# Altium schematic symbol library WE-FLEX HV.SchLib: 25 symbols
Pins are listed as number, name and electrical type; pins without a type are passive.

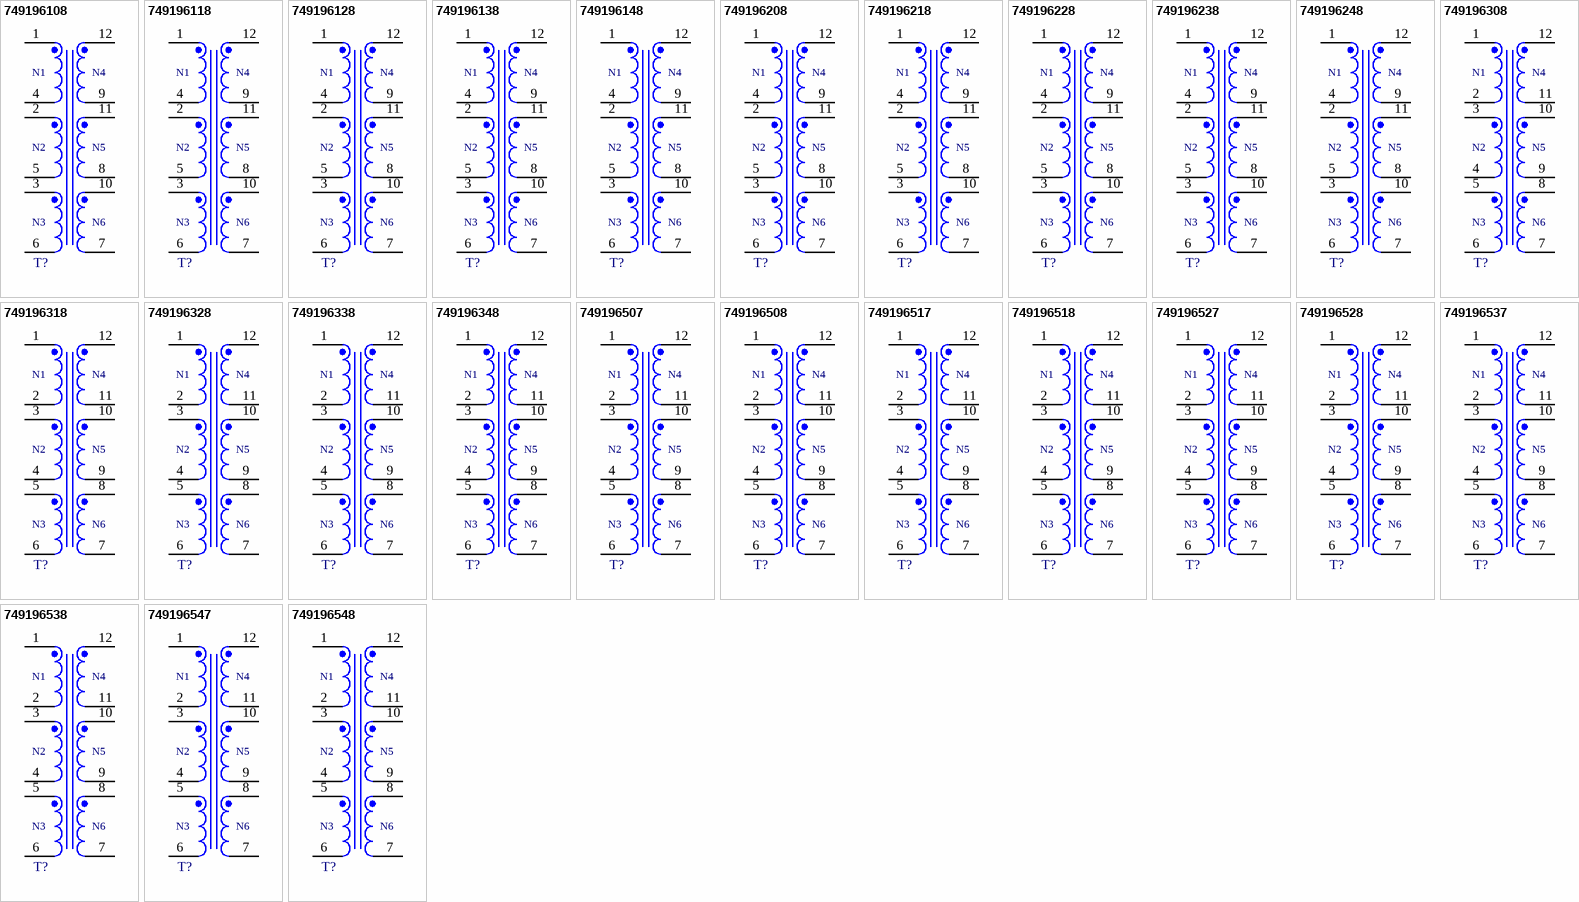
[diagram p0: symbols 749196108 to 749196548]

## 749196108
designator T?, comment 224.6µH, 0.5A  (value not drawn)
WE-FLEX HV SMT Flexible Transformer for DC/DC Converter, ER11.5, 224.6µH, 0.5A; Manufacturer Part Number: 749196108; Manufacturer: Wurth Elektronik; DC Resistance Base: 344mΩ; Insulation Test Voltage: 1500VAC; Leakage Inductance Base: 0.3µH; Saturation Current Base: 0.04A; Turns Ratio: 1:1:1:1:1:1; Type: ungapped; Voltage-µSecond Base: 49.3µVs; ComponentLink1Description: Website Link; ComponentLink1URL: https://www.we-online.com/redexpert/article/749196108?ad; ComponentLink2Description: Datasheet Link; ComponentLink2URL: https://www.we-online.com/redexpert/spec/749196108?ad; Category: Flexible Transformers For SMPS; Match Code: WE-FLEX HV; Mount: Surface Mount; Operating Temperature Max: 125°C; Operating Temperature Min: -40°C; Packaging: Tape and Reel; Case/Size Code: ER11.5; Length: 12.9mm; Width: 9.2mm; Height: 6.2mm; Inductance Base: 224.6µH; Rated Current Base: 0.5A
footprint WE-FLEX HV_ER11.5
pins: 1, 2, 3, 4, 5, 6, 7, 8, 9, 10, 11, 12
text: N1; N4; N2; N5; N3; N6

## 749196118
designator T?, comment 27.4µH, 0.5A  (value not drawn)
WE-FLEX HV SMT Flexible Transformer for DC/DC Converter, ER11.5, 27.4µH, 0.5A; Manufacturer Part Number: 749196118; Manufacturer: Wurth Elektronik; DC Resistance Base: 344mΩ; Insulation Test Voltage: 1500VAC; Leakage Inductance Base: 0.3µH; Saturation Current Base: 0.29A; Turns Ratio: 1:1:1:1:1:1; Type: gapped; Voltage-µSecond Base: 49.3µVs; ComponentLink1Description: Website Link; ComponentLink1URL: https://www.we-online.com/redexpert/article/749196118?ad; ComponentLink2Description: Datasheet Link; ComponentLink2URL: https://www.we-online.com/redexpert/spec/749196118?ad; Category: Flexible Transformers For SMPS; Match Code: WE-FLEX HV; Mount: Surface Mount; Operating Temperature Max: 125°C; Operating Temperature Min: -40°C; Packaging: Tape and Reel; Case/Size Code: ER11.5; Length: 12.9mm; Width: 9.2mm; Height: 6.2mm; Inductance Base: 27.4µH; Rated Current Base: 0.5A
footprint WE-FLEX HV_ER11.5
pins: 1, 2, 3, 4, 5, 6, 7, 8, 9, 10, 11, 12
text: N1; N4; N2; N5; N3; N6

## 749196128
designator T?, comment 14.7µH, 0.5A  (value not drawn)
WE-FLEX HV SMT Flexible Transformer for DC/DC Converter, ER11.5, 14.7µH, 0.5A; Manufacturer Part Number: 749196128; Manufacturer: Wurth Elektronik; DC Resistance Base: 344mΩ; Insulation Test Voltage: 1500VAC; Leakage Inductance Base: 0.3µH; Saturation Current Base: 0.55A; Turns Ratio: 1:1:1:1:1:1; Type: gapped; Voltage-µSecond Base: 49.3µVs; ComponentLink1Description: Website Link; ComponentLink1URL: https://www.we-online.com/redexpert/article/749196128?ad; ComponentLink2Description: Datasheet Link; ComponentLink2URL: https://www.we-online.com/redexpert/spec/749196128?ad; Category: Flexible Transformers For SMPS; Match Code: WE-FLEX HV; Mount: Surface Mount; Operating Temperature Max: 125°C; Operating Temperature Min: -40°C; Packaging: Tape and Reel; Case/Size Code: ER11.5; Length: 12.9mm; Width: 9.2mm; Height: 6.2mm; Inductance Base: 14.7µH; Rated Current Base: 0.5A
footprint WE-FLEX HV_ER11.5
pins: 1, 2, 3, 4, 5, 6, 7, 8, 9, 10, 11, 12
text: N1; N4; N2; N5; N3; N6

## 749196138
designator T?, comment 10.9µH, 0.5A  (value not drawn)
WE-FLEX HV SMT Flexible Transformer for DC/DC Converter, ER11.5, 10.9µH, 0.5A; Manufacturer Part Number: 749196138; Manufacturer: Wurth Elektronik; DC Resistance Base: 344mΩ; Insulation Test Voltage: 1500VAC; Leakage Inductance Base: 0.3µH; Saturation Current Base: 0.8A; Turns Ratio: 1:1:1:1:1:1; Type: gapped; Voltage-µSecond Base: 49.3µVs; ComponentLink1Description: Website Link; ComponentLink1URL: https://www.we-online.com/redexpert/article/749196138?ad; ComponentLink2Description: Datasheet Link; ComponentLink2URL: https://www.we-online.com/redexpert/spec/749196138?ad; Category: Flexible Transformers For SMPS; Match Code: WE-FLEX HV; Mount: Surface Mount; Operating Temperature Max: 125°C; Operating Temperature Min: -40°C; Packaging: Tape and Reel; Case/Size Code: ER11.5; Length: 12.9mm; Width: 9.2mm; Height: 6.2mm; Inductance Base: 10.9µH; Rated Current Base: 0.5A
footprint WE-FLEX HV_ER11.5
pins: 1, 2, 3, 4, 5, 6, 7, 8, 9, 10, 11, 12
text: N1; N4; N2; N5; N3; N6

## 749196148
designator T?, comment 8.5µH, 0.5A  (value not drawn)
WE-FLEX HV SMT Flexible Transformer for DC/DC Converter, ER11.5, 8.5µH, 0.5A; Manufacturer Part Number: 749196148; Manufacturer: Wurth Elektronik; DC Resistance Base: 344mΩ; Insulation Test Voltage: 1500VAC; Leakage Inductance Base: 0.3µH; Saturation Current Base: 1.02A; Turns Ratio: 1:1:1:1:1:1; Type: gapped; Voltage-µSecond Base: 49.3µVs; ComponentLink1Description: Website Link; ComponentLink1URL: https://www.we-online.com/redexpert/article/749196148?ad; ComponentLink2Description: Datasheet Link; ComponentLink2URL: https://www.we-online.com/redexpert/spec/749196148?ad; Category: Flexible Transformers For SMPS; Match Code: WE-FLEX HV; Mount: Surface Mount; Operating Temperature Max: 125°C; Operating Temperature Min: -40°C; Packaging: Tape and Reel; Case/Size Code: ER11.5; Length: 12.9mm; Width: 9.2mm; Height: 6.2mm; Inductance Base: 8.5µH; Rated Current Base: 0.5A
footprint WE-FLEX HV_ER11.5
pins: 1, 2, 3, 4, 5, 6, 7, 8, 9, 10, 11, 12
text: N1; N4; N2; N5; N3; N6

## 749196208
designator T?, comment 140µH, 0.8A  (value not drawn)
WE-FLEX HV SMT Flexible Transformer for DC/DC Converter, ER14.5/6, 140µH, 0.8A; Manufacturer Part Number: 749196208; Manufacturer: Wurth Elektronik; DC Resistance Base: 200mΩ; Insulation Test Voltage: 1500VAC; Leakage Inductance Base: 0.17µH; Saturation Current Base: 0.07A; Turns Ratio: 1:1:1:1:1:1; Type: ungapped; Voltage-µSecond Base: 63.4µVs; ComponentLink1Description: Website Link; ComponentLink1URL: https://www.we-online.com/redexpert/article/749196208?ad; ComponentLink2Description: Datasheet Link; ComponentLink2URL: https://www.we-online.com/redexpert/spec/749196208?ad; Category: Flexible Transformers For SMPS; Match Code: WE-FLEX HV; Mount: Surface Mount; Operating Temperature Max: 125°C; Operating Temperature Min: -40°C; Packaging: Tape and Reel; Case/Size Code: ER14.5/6; Length: 16.3mm; Width: 12mm; Height: 7.4mm; Inductance Base: 140µH; Rated Current Base: 0.8A
footprint WE-FLEX HV_ER14.5/6
pins: 1, 2, 3, 4, 5, 6, 7, 8, 9, 10, 11, 12
text: N1; N4; N2; N5; N3; N6

## 749196218
designator T?, comment 21.6µH, 0.8A  (value not drawn)
WE-FLEX HV SMT Flexible Transformer for DC/DC Converter, ER14.5/6, 21.6µH, 0.8A; Manufacturer Part Number: 749196218; Manufacturer: Wurth Elektronik; DC Resistance Base: 200mΩ; Insulation Test Voltage: 1500VAC; Leakage Inductance Base: 0.17µH; Saturation Current Base: 0.48A; Turns Ratio: 1:1:1:1:1:1; Type: gapped; Voltage-µSecond Base: 63.4µVs; ComponentLink1Description: Website Link; ComponentLink1URL: https://www.we-online.com/redexpert/article/749196218?ad; ComponentLink2Description: Datasheet Link; ComponentLink2URL: https://www.we-online.com/redexpert/spec/749196218?ad; Category: Flexible Transformers For SMPS; Match Code: WE-FLEX HV; Mount: Surface Mount; Operating Temperature Max: 125°C; Operating Temperature Min: -40°C; Packaging: Tape and Reel; Case/Size Code: ER14.5/6; Length: 16.3mm; Width: 12mm; Height: 7.4mm; Inductance Base: 21.6µH; Rated Current Base: 0.8A
footprint WE-FLEX HV_ER14.5/6
pins: 1, 2, 3, 4, 5, 6, 7, 8, 9, 10, 11, 12
text: N1; N4; N2; N5; N3; N6

## 749196228
designator T?, comment 11.6µH, 0.8A  (value not drawn)
WE-FLEX HV SMT Flexible Transformer for DC/DC Converter, ER14.5/6, 11.6µH, 0.8A; Manufacturer Part Number: 749196228; Manufacturer: Wurth Elektronik; DC Resistance Base: 200mΩ; Insulation Test Voltage: 1500VAC; Leakage Inductance Base: 0.17µH; Saturation Current Base: 0.94A; Turns Ratio: 1:1:1:1:1:1; Type: gapped; Voltage-µSecond Base: 63.4µVs; ComponentLink1Description: Website Link; ComponentLink1URL: https://www.we-online.com/redexpert/article/749196228?ad; ComponentLink2Description: Datasheet Link; ComponentLink2URL: https://www.we-online.com/redexpert/spec/749196228?ad; Category: Flexible Transformers For SMPS; Match Code: WE-FLEX HV; Mount: Surface Mount; Operating Temperature Max: 125°C; Operating Temperature Min: -40°C; Packaging: Tape and Reel; Case/Size Code: ER14.5/6; Length: 16.3mm; Width: 12mm; Height: 7.4mm; Inductance Base: 11.6µH; Rated Current Base: 0.8A
footprint WE-FLEX HV_ER14.5/6
pins: 1, 2, 3, 4, 5, 6, 7, 8, 9, 10, 11, 12
text: N1; N4; N2; N5; N3; N6

## 749196238
designator T?, comment 8.3µH, 0.8A  (value not drawn)
WE-FLEX HV SMT Flexible Transformer for DC/DC Converter, ER14.5/6, 8.3µH, 0.8A; Manufacturer Part Number: 749196238; Manufacturer: Wurth Elektronik; DC Resistance Base: 200mΩ; Insulation Test Voltage: 1500VAC; Leakage Inductance Base: 0.17µH; Saturation Current Base: 1.3A; Turns Ratio: 1:1:1:1:1:1; Type: gapped; Voltage-µSecond Base: 63.4µVs; ComponentLink1Description: Website Link; ComponentLink1URL: https://www.we-online.com/redexpert/article/749196238?ad; ComponentLink2Description: Datasheet Link; ComponentLink2URL: https://www.we-online.com/redexpert/spec/749196238?ad; Category: Flexible Transformers For SMPS; Match Code: WE-FLEX HV; Mount: Surface Mount; Operating Temperature Max: 125°C; Operating Temperature Min: -40°C; Packaging: Tape and Reel; Case/Size Code: ER14.5/6; Length: 16.3mm; Width: 12mm; Height: 7.4mm; Inductance Base: 8.3µH; Rated Current Base: 0.8A
footprint WE-FLEX HV_ER14.5/6
pins: 1, 2, 3, 4, 5, 6, 7, 8, 9, 10, 11, 12
text: N1; N4; N2; N5; N3; N6

## 749196248
designator T?, comment 6.6µH, 0.8A  (value not drawn)
WE-FLEX HV SMT Flexible Transformer for DC/DC Converter, ER14.5/6, 6.6µH, 0.8A; Manufacturer Part Number: 749196248; Manufacturer: Wurth Elektronik; DC Resistance Base: 200mΩ; Insulation Test Voltage: 1500VAC; Leakage Inductance Base: 0.17µH; Saturation Current Base: 1.6A; Turns Ratio: 1:1:1:1:1:1; Type: gapped; Voltage-µSecond Base: 63.4µVs; ComponentLink1Description: Website Link; ComponentLink1URL: https://www.we-online.com/redexpert/article/749196248?ad; ComponentLink2Description: Datasheet Link; ComponentLink2URL: https://www.we-online.com/redexpert/spec/749196248?ad; Category: Flexible Transformers For SMPS; Match Code: WE-FLEX HV; Mount: Surface Mount; Operating Temperature Max: 125°C; Operating Temperature Min: -40°C; Packaging: Tape and Reel; Case/Size Code: ER14.5/6; Length: 16.3mm; Width: 12mm; Height: 7.4mm; Inductance Base: 6.6µH; Rated Current Base: 0.8A
footprint WE-FLEX HV_ER14.5/6
pins: 1, 2, 3, 4, 5, 6, 7, 8, 9, 10, 11, 12
text: N1; N4; N2; N5; N3; N6

## 749196308
designator T?, comment 153.8µH, 0.83A  (value not drawn)
WE-FLEX HV SMT Flexible Transformer for DC/DC Converter, EFD15, 153.8µH, 0.83A; Manufacturer Part Number: 749196308; Manufacturer: Wurth Elektronik; DC Resistance Base: 145mΩ; Insulation Test Voltage: 1500VAC; Leakage Inductance Base: 0.13µH; Saturation Current Base: 0.06A; Turns Ratio: 1:1:1:1:1:1; Type: ungapped; Voltage-µSecond Base: 61.3µVs; ComponentLink1Description: Website Link; ComponentLink1URL: https://www.we-online.com/redexpert/article/749196308?ad; ComponentLink2Description: Datasheet Link; ComponentLink2URL: https://www.we-online.com/redexpert/spec/749196308?ad; Category: Flexible Transformers For SMPS; Match Code: WE-FLEX HV; Mount: Surface Mount; Operating Temperature Max: 125°C; Operating Temperature Min: -40°C; Packaging: Tape and Reel; Case/Size Code: EFD15; Length: 16mm; Width: 17.5mm; Height: 9mm; Inductance Base: 153.8µH; Rated Current Base: 0.83A
footprint WE-FLEX HV_EFD15
pins: 1, 2, 3, 4, 5, 6, 7, 8, 9, 10, 11, 12
text: N1; N4; N2; N5; N3; N6

## 749196318
designator T?, comment 23.3µH, 0.83A  (value not drawn)
WE-FLEX HV SMT Flexible Transformer for DC/DC Converter, EFD15, 23.3µH, 0.83A; Manufacturer Part Number: 749196318; Manufacturer: Wurth Elektronik; DC Resistance Base: 145mΩ; Insulation Test Voltage: 1500VAC; Leakage Inductance Base: 0.13µH; Saturation Current Base: 0.43A; Turns Ratio: 1:1:1:1:1:1; Type: gapped; Voltage-µSecond Base: 61.3µVs; ComponentLink1Description: Website Link; ComponentLink1URL: https://www.we-online.com/redexpert/article/749196318?ad; ComponentLink2Description: Datasheet Link; ComponentLink2URL: https://www.we-online.com/redexpert/spec/749196318?ad; Category: Flexible Transformers For SMPS; Match Code: WE-FLEX HV; Mount: Surface Mount; Operating Temperature Max: 125°C; Operating Temperature Min: -40°C; Packaging: Tape and Reel; Case/Size Code: EFD15; Length: 16mm; Width: 17.5mm; Height: 9mm; Inductance Base: 23.3µH; Rated Current Base: 0.83A
footprint WE-FLEX HV_EFD15
pins: 1, 2, 3, 4, 5, 6, 7, 8, 9, 10, 11, 12
text: N1; N4; N2; N5; N3; N6

## 749196328
designator T?, comment 14.2µH, 0.83A  (value not drawn)
WE-FLEX HV SMT Flexible Transformer for DC/DC Converter, EFD15, 14.2µH, 0.83A; Manufacturer Part Number: 749196328; Manufacturer: Wurth Elektronik; DC Resistance Base: 145mΩ; Insulation Test Voltage: 1500VAC; Leakage Inductance Base: 0.13µH; Saturation Current Base: 0.72A; Turns Ratio: 1:1:1:1:1:1; Type: gapped; Voltage-µSecond Base: 61.3µVs; ComponentLink1Description: Website Link; ComponentLink1URL: https://www.we-online.com/redexpert/article/749196328?ad; ComponentLink2Description: Datasheet Link; ComponentLink2URL: https://www.we-online.com/redexpert/spec/749196328?ad; Category: Flexible Transformers For SMPS; Match Code: WE-FLEX HV; Mount: Surface Mount; Operating Temperature Max: 125°C; Operating Temperature Min: -40°C; Packaging: Tape and Reel; Case/Size Code: EFD15; Length: 16mm; Width: 17.5mm; Height: 9mm; Inductance Base: 14.2µH; Rated Current Base: 0.83A
footprint WE-FLEX HV_EFD15
pins: 1, 2, 3, 4, 5, 6, 7, 8, 9, 10, 11, 12
text: N1; N4; N2; N5; N3; N6

## 749196338
designator T?, comment 9.3µH, 0.83A  (value not drawn)
WE-FLEX HV SMT Flexible Transformer for DC/DC Converter, EFD15, 9.3µH, 0.83A; Manufacturer Part Number: 749196338; Manufacturer: Wurth Elektronik; DC Resistance Base: 145mΩ; Insulation Test Voltage: 1500VAC; Leakage Inductance Base: 0.13µH; Saturation Current Base: 1.13A; Turns Ratio: 1:1:1:1:1:1; Type: gapped; Voltage-µSecond Base: 61.3µVs; ComponentLink1Description: Website Link; ComponentLink1URL: https://www.we-online.com/redexpert/article/749196338?ad; ComponentLink2Description: Datasheet Link; ComponentLink2URL: https://www.we-online.com/redexpert/spec/749196338?ad; Category: Flexible Transformers For SMPS; Match Code: WE-FLEX HV; Mount: Surface Mount; Operating Temperature Max: 125°C; Operating Temperature Min: -40°C; Packaging: Tape and Reel; Case/Size Code: EFD15; Length: 16mm; Width: 17.5mm; Height: 9mm; Inductance Base: 9.3µH; Rated Current Base: 0.83A
footprint WE-FLEX HV_EFD15
pins: 1, 2, 3, 4, 5, 6, 7, 8, 9, 10, 11, 12
text: N1; N4; N2; N5; N3; N6

## 749196348
designator T?, comment 7.9µH, 0.83A  (value not drawn)
WE-FLEX HV SMT Flexible Transformer for DC/DC Converter, EFD15, 7.9µH, 0.83A; Manufacturer Part Number: 749196348; Manufacturer: Wurth Elektronik; DC Resistance Base: 145mΩ; Insulation Test Voltage: 1500VAC; Leakage Inductance Base: 0.13µH; Saturation Current Base: 1.41A; Turns Ratio: 1:1:1:1:1:1; Type: gapped; Voltage-µSecond Base: 61.3µVs; ComponentLink1Description: Website Link; ComponentLink1URL: https://www.we-online.com/redexpert/article/749196348?ad; ComponentLink2Description: Datasheet Link; ComponentLink2URL: https://www.we-online.com/redexpert/spec/749196348?ad; Category: Flexible Transformers For SMPS; Match Code: WE-FLEX HV; Mount: Surface Mount; Operating Temperature Max: 125°C; Operating Temperature Min: -40°C; Packaging: Tape and Reel; Case/Size Code: EFD15; Length: 16mm; Width: 17.5mm; Height: 9mm; Inductance Base: 7.9µH; Rated Current Base: 0.83A
footprint WE-FLEX HV_EFD15
pins: 1, 2, 3, 4, 5, 6, 7, 8, 9, 10, 11, 12
text: N1; N4; N2; N5; N3; N6

## 749196507
designator T?, comment 87.1µH, 2.3A  (value not drawn)
WE-FLEX HV SMT Flexible Transformer for DC/DC Converter, EFD20, 87.1µH, 2.3A; Manufacturer Part Number: 749196507; Manufacturer: Wurth Elektronik; DC Resistance Base: 36mΩ; Insulation Test Voltage: 1500VAC; Leakage Inductance Base: 0.18µH; Saturation Current Base: 0.16A; Turns Ratio: 1:1:1:1:1:1; Type: ungapped; Voltage-µSecond Base: 86.3µVs; ComponentLink1Description: Website Link; ComponentLink1URL: https://www.we-online.com/redexpert/article/749196507?ad; ComponentLink2Description: Datasheet Link; ComponentLink2URL: https://www.we-online.com/redexpert/spec/749196507?ad; Category: Flexible Transformers For SMPS; Match Code: WE-FLEX HV; Mount: Surface Mount; Operating Temperature Max: 125°C; Operating Temperature Min: -40°C; Packaging: Tape and Reel; Case/Size Code: EFD20; Length: 21mm; Width: 21.5mm; Height: 12mm; Inductance Base: 87.1µH; Rated Current Base: 2.3A
footprint WE-FLEX HV_EFD20
pins: 1, 2, 3, 4, 5, 6, 7, 8, 9, 10, 11, 12
text: N1; N4; N2; N5; N3; N6

## 749196508
designator T?, comment 196µH, 1.35A  (value not drawn)
WE-FLEX HV SMT Flexible Transformer for DC/DC Converter, EFD20, 196µH, 1.35A; Manufacturer Part Number: 749196508; Manufacturer: Wurth Elektronik; DC Resistance Base: 102mΩ; Insulation Test Voltage: 1500VAC; Leakage Inductance Base: 0.24µH; Saturation Current Base: 0.1A; Turns Ratio: 1:1:1:1:1:1; Type: ungapped; Voltage-µSecond Base: 123.4µVs; ComponentLink1Description: Website Link; ComponentLink1URL: https://www.we-online.com/redexpert/article/749196508?ad; ComponentLink2Description: Datasheet Link; ComponentLink2URL: https://www.we-online.com/redexpert/spec/749196508?ad; Category: Flexible Transformers For SMPS; Match Code: WE-FLEX HV; Mount: Surface Mount; Operating Temperature Max: 125°C; Operating Temperature Min: -40°C; Packaging: Tape and Reel; Case/Size Code: EFD20; Length: 21mm; Width: 21.5mm; Height: 12mm; Inductance Base: 196µH; Rated Current Base: 1.35A
footprint WE-FLEX HV_EFD20
pins: 1, 2, 3, 4, 5, 6, 7, 8, 9, 10, 11, 12
text: N1; N4; N2; N5; N3; N6

## 749196517
designator T?, comment 9.9µH, 2.3A  (value not drawn)
WE-FLEX HV SMT Flexible Transformer for DC/DC Converter, EFD20, 9.9µH, 2.3A; Manufacturer Part Number: 749196517; Manufacturer: Wurth Elektronik; DC Resistance Base: 36mΩ; Insulation Test Voltage: 1500VAC; Leakage Inductance Base: 0.18µH; Saturation Current Base: 1.35A; Turns Ratio: 1:1:1:1:1:1; Type: gapped; Voltage-µSecond Base: 83.6µVs; ComponentLink1Description: Website Link; ComponentLink1URL: https://www.we-online.com/redexpert/article/749196517?ad; ComponentLink2Description: Datasheet Link; ComponentLink2URL: https://www.we-online.com/redexpert/spec/749196517?ad; Category: Flexible Transformers For SMPS; Match Code: WE-FLEX HV; Mount: Surface Mount; Operating Temperature Max: 125°C; Operating Temperature Min: -40°C; Packaging: Tape and Reel; Case/Size Code: EFD20; Length: 21mm; Width: 21.5mm; Height: 12mm; Inductance Base: 9.9µH; Rated Current Base: 2.3A
footprint WE-FLEX HV_EFD20
pins: 1, 2, 3, 4, 5, 6, 7, 8, 9, 10, 11, 12
text: N1; N4; N2; N5; N3; N6

## 749196518
designator T?, comment 22.3µH, 1.35A  (value not drawn)
WE-FLEX HV SMT Flexible Transformer for DC/DC Converter, EFD20, 22.3µH, 1.35A; Manufacturer Part Number: 749196518; Manufacturer: Wurth Elektronik; DC Resistance Base: 102mΩ; Insulation Test Voltage: 1500VAC; Leakage Inductance Base: 0.24µH; Saturation Current Base: 0.93A; Turns Ratio: 1:1:1:1:1:1; Type: gapped; Voltage-µSecond Base: 123.4µVs; ComponentLink1Description: Website Link; ComponentLink1URL: https://www.we-online.com/redexpert/article/749196518?ad; ComponentLink2Description: Datasheet Link; ComponentLink2URL: https://www.we-online.com/redexpert/spec/749196518?ad; Category: Flexible Transformers For SMPS; Match Code: WE-FLEX HV; Mount: Surface Mount; Operating Temperature Max: 125°C; Operating Temperature Min: -40°C; Packaging: Tape and Reel; Case/Size Code: EFD20; Length: 21mm; Width: 21.5mm; Height: 12mm; Inductance Base: 22.3µH; Rated Current Base: 1.35A
footprint WE-FLEX HV_EFD20
pins: 1, 2, 3, 4, 5, 6, 7, 8, 9, 10, 11, 12
text: N1; N4; N2; N5; N3; N6

## 749196527
designator T?, comment 5.3µH, 2.3A  (value not drawn)
WE-FLEX HV SMT Flexible Transformer for DC/DC Converter, EFD20, 5.3µH, 2.3A; Manufacturer Part Number: 749196527; Manufacturer: Wurth Elektronik; DC Resistance Base: 36mΩ; Insulation Test Voltage: 1500VAC; Leakage Inductance Base: 0.18µH; Saturation Current Base: 2.81A; Turns Ratio: 1:1:1:1:1:1; Type: gapped; Voltage-µSecond Base: 83.6µVs; ComponentLink1Description: Website Link; ComponentLink1URL: https://www.we-online.com/redexpert/article/749196527?ad; ComponentLink2Description: Datasheet Link; ComponentLink2URL: https://www.we-online.com/redexpert/spec/749196527?ad; Category: Flexible Transformers For SMPS; Match Code: WE-FLEX HV; Mount: Surface Mount; Operating Temperature Max: 125°C; Operating Temperature Min: -40°C; Packaging: Tape and Reel; Case/Size Code: EFD20; Length: 21mm; Width: 21.5mm; Height: 12mm; Inductance Base: 5.3µH; Rated Current Base: 2.3A
footprint WE-FLEX HV_EFD20
pins: 1, 2, 3, 4, 5, 6, 7, 8, 9, 10, 11, 12
text: N1; N4; N2; N5; N3; N6

## 749196528
designator T?, comment 12µH, 1.35A  (value not drawn)
WE-FLEX HV SMT Flexible Transformer for DC/DC Converter, EFD20, 12µH, 1.35A; Manufacturer Part Number: 749196528; Manufacturer: Wurth Elektronik; DC Resistance Base: 102mΩ; Insulation Test Voltage: 1500VAC; Leakage Inductance Base: 0.24µH; Saturation Current Base: 1.71A; Turns Ratio: 1:1:1:1:1:1; Type: gapped; Voltage-µSecond Base: 123.4µVs; ComponentLink1Description: Website Link; ComponentLink1URL: https://www.we-online.com/redexpert/article/749196528?ad; ComponentLink2Description: Datasheet Link; ComponentLink2URL: https://www.we-online.com/redexpert/spec/749196528?ad; Category: Flexible Transformers For SMPS; Match Code: WE-FLEX HV; Mount: Surface Mount; Operating Temperature Max: 125°C; Operating Temperature Min: -40°C; Packaging: Tape and Reel; Case/Size Code: EFD20; Length: 21mm; Width: 21.5mm; Height: 12mm; Inductance Base: 12µH; Rated Current Base: 1.35A
footprint WE-FLEX HV_EFD20
pins: 1, 2, 3, 4, 5, 6, 7, 8, 9, 10, 11, 12
text: N1; N4; N2; N5; N3; N6

## 749196537
designator T?, comment 4.3µH, 2.3A  (value not drawn)
WE-FLEX HV SMT Flexible Transformer for DC/DC Converter, EFD20, 4.3µH, 2.3A; Manufacturer Part Number: 749196537; Manufacturer: Wurth Elektronik; DC Resistance Base: 36mΩ; Insulation Test Voltage: 1500VAC; Leakage Inductance Base: 0.18µH; Saturation Current Base: 3.24A; Turns Ratio: 1:1:1:1:1:1; Type: gapped; Voltage-µSecond Base: 83.6µVs; ComponentLink1Description: Website Link; ComponentLink1URL: https://www.we-online.com/redexpert/article/749196537?ad; ComponentLink2Description: Datasheet Link; ComponentLink2URL: https://www.we-online.com/redexpert/spec/749196537?ad; Category: Flexible Transformers For SMPS; Match Code: WE-FLEX HV; Mount: Surface Mount; Operating Temperature Max: 125°C; Operating Temperature Min: -40°C; Packaging: Tape and Reel; Case/Size Code: EFD20; Length: 21mm; Width: 21.5mm; Height: 12mm; Inductance Base: 4.3µH; Rated Current Base: 2.3A
footprint WE-FLEX HV_EFD20
pins: 1, 2, 3, 4, 5, 6, 7, 8, 9, 10, 11, 12
text: N1; N4; N2; N5; N3; N6

## 749196538
designator T?, comment 9.7µH, 1.35A  (value not drawn)
WE-FLEX HV SMT Flexible Transformer for DC/DC Converter, EFD20, 9.7µH, 1.35A; Manufacturer Part Number: 749196538; Manufacturer: Wurth Elektronik; DC Resistance Base: 102mΩ; Insulation Test Voltage: 1500VAC; Leakage Inductance Base: 0.24µH; Saturation Current Base: 2.2A; Turns Ratio: 1:1:1:1:1:1; Type: gapped; Voltage-µSecond Base: 123.4µVs; ComponentLink1Description: Website Link; ComponentLink1URL: https://www.we-online.com/redexpert/article/749196538?ad; ComponentLink2Description: Datasheet Link; ComponentLink2URL: https://www.we-online.com/redexpert/spec/749196538?ad; Category: Flexible Transformers For SMPS; Match Code: WE-FLEX HV; Mount: Surface Mount; Operating Temperature Max: 125°C; Operating Temperature Min: -40°C; Packaging: Tape and Reel; Case/Size Code: EFD20; Length: 21mm; Width: 21.5mm; Height: 12mm; Inductance Base: 9.7µH; Rated Current Base: 1.35A
footprint WE-FLEX HV_EFD20
pins: 1, 2, 3, 4, 5, 6, 7, 8, 9, 10, 11, 12
text: N1; N4; N2; N5; N3; N6

## 749196547
designator T?, comment 3.4µH, 2.3A  (value not drawn)
WE-FLEX HV SMT Flexible Transformer for DC/DC Converter, EFD20, 3.4µH, 2.3A; Manufacturer Part Number: 749196547; Manufacturer: Wurth Elektronik; DC Resistance Base: 36mΩ; Insulation Test Voltage: 1500VAC; Leakage Inductance Base: 0.18µH; Saturation Current Base: 3.93A; Turns Ratio: 1:1:1:1:1:1; Type: gapped; Voltage-µSecond Base: 83.6µVs; ComponentLink1Description: Website Link; ComponentLink1URL: https://www.we-online.com/redexpert/article/749196547?ad; ComponentLink2Description: Datasheet Link; ComponentLink2URL: https://www.we-online.com/redexpert/spec/749196547?ad; Category: Flexible Transformers For SMPS; Match Code: WE-FLEX HV; Mount: Surface Mount; Operating Temperature Max: 125°C; Operating Temperature Min: -40°C; Packaging: Tape and Reel; Case/Size Code: EFD20; Length: 21mm; Width: 21.5mm; Height: 12mm; Inductance Base: 3.4µH; Rated Current Base: 2.3A
footprint WE-FLEX HV_EFD20
pins: 1, 2, 3, 4, 5, 6, 7, 8, 9, 10, 11, 12
text: N1; N4; N2; N5; N3; N6

## 749196548
designator T?, comment 7.6µH, 1.35A  (value not drawn)
WE-FLEX HV SMT Flexible Transformer for DC/DC Converter, EFD20, 7.6µH, 1.35A; Manufacturer Part Number: 749196548; Manufacturer: Wurth Elektronik; DC Resistance Base: 102mΩ; Insulation Test Voltage: 1500VAC; Leakage Inductance Base: 0.24µH; Saturation Current Base: 2.98A; Turns Ratio: 1:1:1:1:1:1; Type: gapped; Voltage-µSecond Base: 123.4µVs; ComponentLink1Description: Website Link; ComponentLink1URL: https://www.we-online.com/redexpert/article/749196548?ad; ComponentLink2Description: Datasheet Link; ComponentLink2URL: https://www.we-online.com/redexpert/spec/749196548?ad; Category: Flexible Transformers For SMPS; Match Code: WE-FLEX HV; Mount: Surface Mount; Operating Temperature Max: 125°C; Operating Temperature Min: -40°C; Packaging: Tape and Reel; Case/Size Code: EFD20; Length: 21mm; Width: 21.5mm; Height: 12mm; Inductance Base: 7.6µH; Rated Current Base: 1.35A
footprint WE-FLEX HV_EFD20
pins: 1, 2, 3, 4, 5, 6, 7, 8, 9, 10, 11, 12
text: N1; N4; N2; N5; N3; N6